# Altium footprint library 100x100_3_czujniki_busbar.PcbLib: 3 footprints
Each footprint in its own frame and in the unit in brackets; x right, y up, seen from the top. Pads: shape width x height; smd on the part's side, far side on the other; paste and mask are expansions set on the pad; w line width, h text height; cw(c..) or ccw(c..) is an arc to the next point about the centre after c.
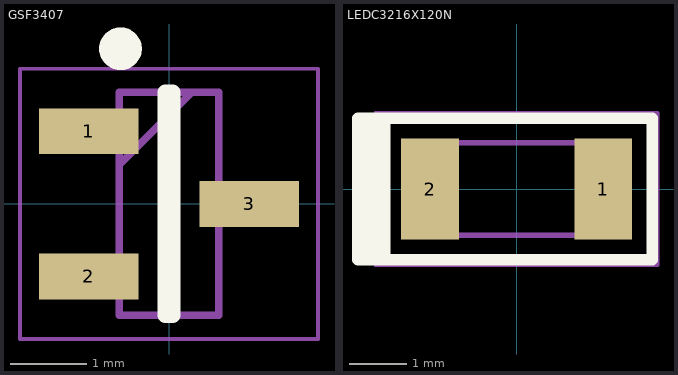
[diagram p0: the footprints below, top view; thin cyan lines are the x and y axes]

## GSF3407 [mm] "P-Channel 30 V 4.1A (Ta) 1.2W (Ta) Surface Mount SOT-23"
pads (3):
  rect 1.3x0.6 smd: 1(-1.05,0.95) 2(-1.05,-0.95) 3(1.05,0)
Top Overlay:
  circle w0.305: c-0.635,2.032 r0.127
  lines w0.2: -0.05,-1.46 0.05,-1.46 0.05,1.46 -0.05,1.46 -0.05,-1.46
Top Courtyard:
  lines w0.1: -0.65,0.51 0.3,1.46 ; -0.65,-1.46 0.65,-1.46 0.65,1.46 -0.65,1.46 -0.65,-1.46
Mechanical 20:
  lines w0.05: -1.95,-1.77 1.95,-1.77 1.95,1.77 -1.95,1.77 -1.95,-1.77
3D body "SI2343CDS-T1-GE3.stp": height 1.12, standoff 0, extent -1.321,-1.524 1.321,1.524

## LEDC3216X120N [mm]
pads (2):
  rect 1x1.75 smd: 1(1.5,0) 2(-1.5,0)
Top Overlay:
  lines w0.2: -2.622,1.225 -2.622,-1.225 ; -2.458,-1.143 -2.458,1.225 -2.286,1.225 ; -2.372,1.225 -2.749,1.225 -2.749,-1.225 -2.622,-1.225 ; -2.622,-1.225 -2.286,-1.225 ; -2.286,-1.225 2.35,-1.225 2.35,1.225 -2.286,1.225 ; -2.286,-1.225 -2.286,1.225
Top Courtyard:
  lines w0.1: -1.6,0.267 -1.067,0.8 ; -1.6,-0.8 -1.6,0.8 1.6,0.8 1.6,-0.8 -1.6,-0.8
Mechanical 20:
  lines w0.05: -2.45,-1.325 -2.45,1.325 2.45,1.325 2.45,-1.325 -2.45,-1.325
3D body "LTST-C230KGKT.stp": height 1.1, standoff 0, extent -1.6,-0.787 1.6,0.813

## PCBComponent_1 [mm]